# Altium footprint library DIP-8.PcbLib: 1 footprints
Each footprint in its own frame and in the unit in brackets; x right, y up, seen from the top. Pads: shape width x height; smd on the part's side, far side on the other; paste and mask are expansions set on the pad; w line width, h text height; cw(c..) or ccw(c..) is an arc to the next point about the centre after c.
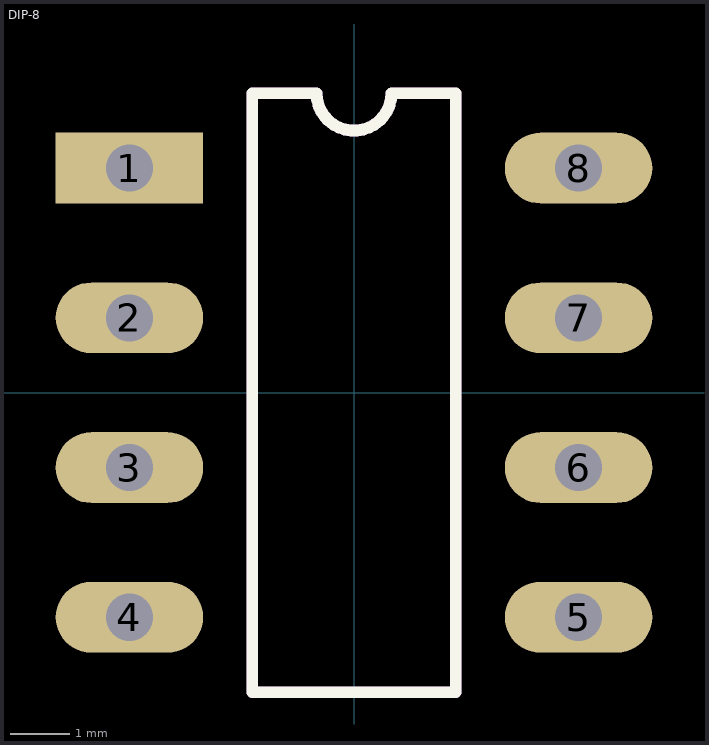
[diagram p0: the footprint, top view; thin cyan lines are the x and y axes]

## DIP-8 [mm]
pads (8):
  rect 2.5x1.2 hole 0.8: 1(-3.81,3.81)
  oval 2.5x1.2 hole 0.8: 2(-3.81,1.27) 3(-3.81,-1.27) 4(-3.81,-3.81) 5(3.81,-3.81) 6(3.81,-1.27) 7(3.81,1.27) 8(3.81,3.81)
Top Overlay:
  lines w0.2: -1.725,-5.08 -1.725,5.08 -0.635,5.08 ccw(c0,5.08) 0.635,5.08 1.725,5.08 1.725,-5.08 -1.725,-5.08
Mechanical 13:
  lines w0.2: -1.725,-5.08 -1.725,5.08 -0.635,5.08 ccw(c0,5.08) 0.635,5.08 1.725,5.08 1.725,-5.08 -1.725,-5.08
  text ".Designator" at 0.127,-2.921 h1.52
3D body: height 6.08, standoff -2.5, extent -3.935,-5.46 3.935,5.46